# Altium footprint library 7.接插件封装.PcbLib: 201 footprints (part 9 of 13)
Each footprint in its own frame and in the unit in brackets; x right, y up, seen from the top. Pads: shape width x height; smd on the part's side, far side on the other; paste and mask are expansions set on the pad; w line width, h text height; cw(c..) or ccw(c..) is an arc to the next point about the centre after c.
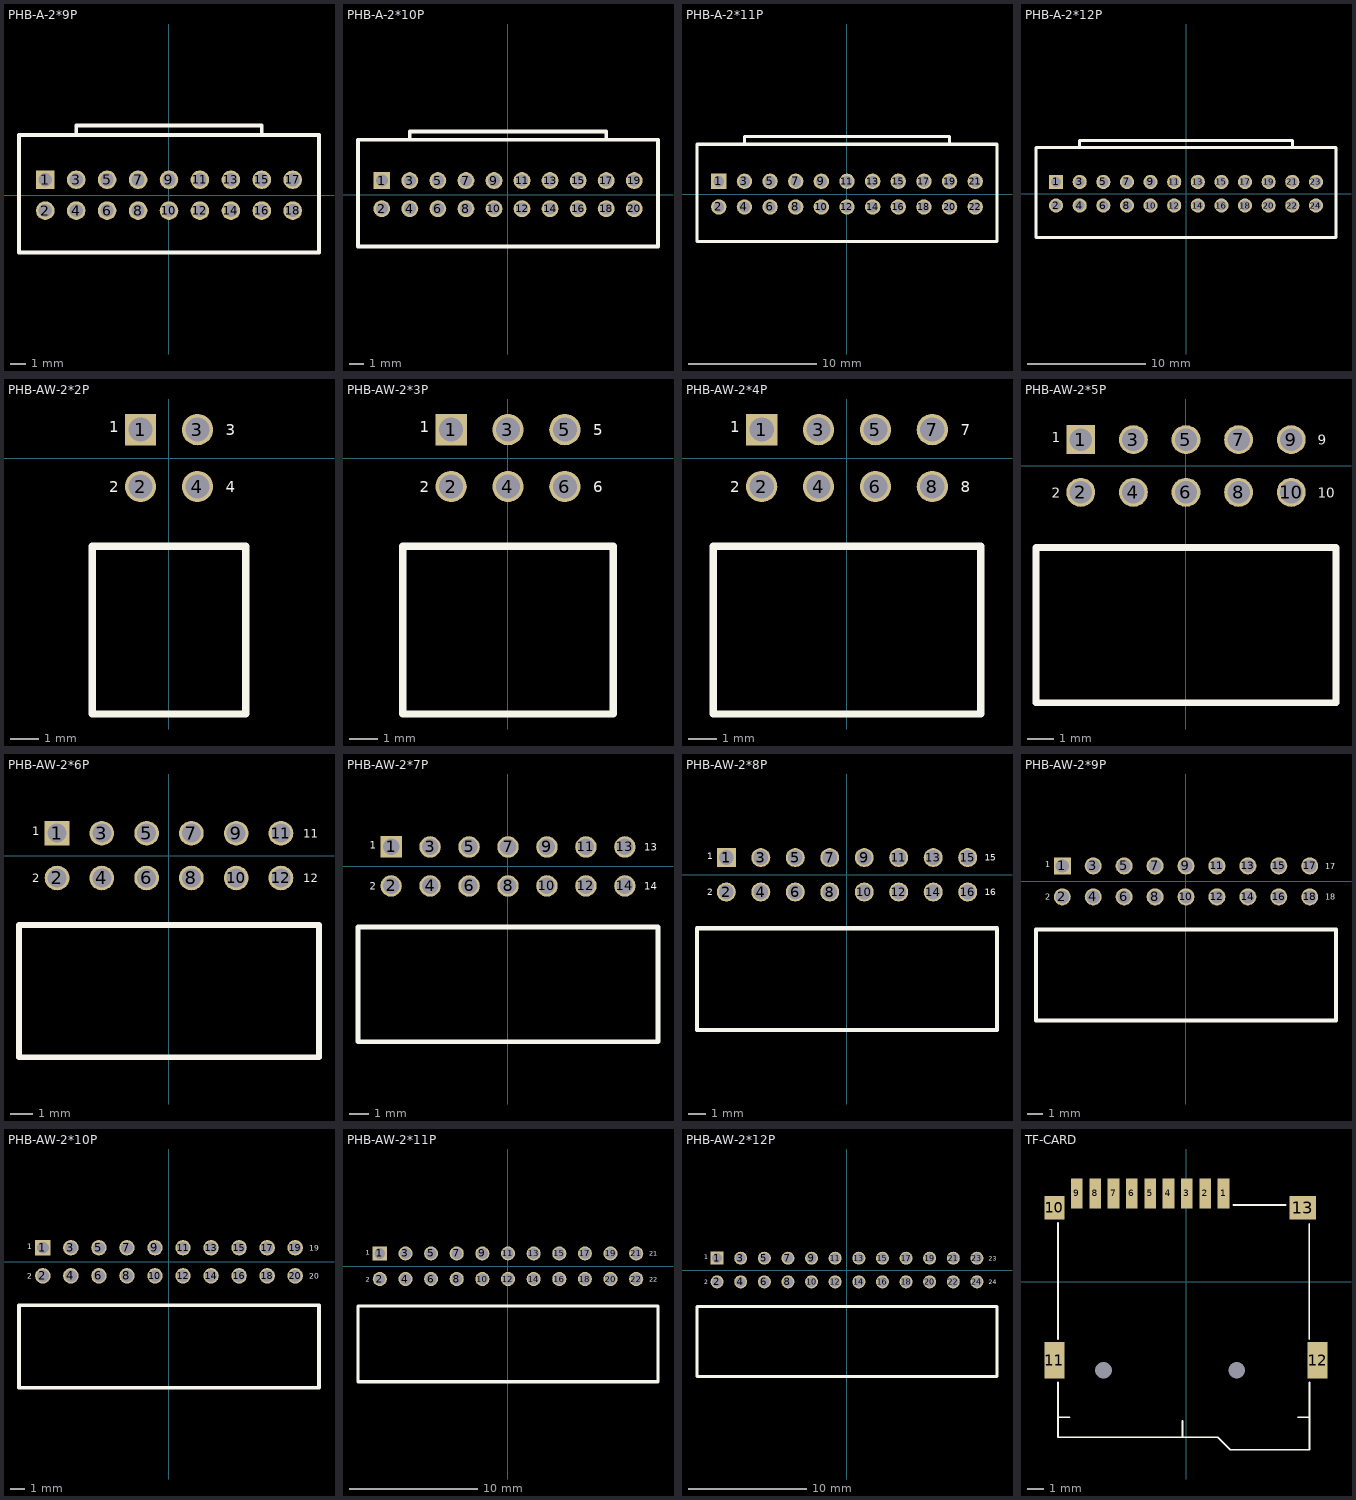
[diagram p8: the footprints below, top view; thin cyan lines are the x and y axes]

## PHB-A-2*9P [mm]
pads (18):
  rect 1.2x1.2 hole 0.85: 1(-8,1)
  round 1.2 hole 0.85: 2(-8,-1) 3(-6,1) 4(-6,-1) 5(-4,1) 6(-4,-1) 7(-2,1) 8(-2,-1) 9(0,1) 10(0,-1) 11(2,1) 12(2,-1) 13(4,1) 14(4,-1) 15(6,1) 16(6,-1) 17(8,1) 18(8,-1)
Top Overlay:
  lines w0.254: -6,3.9 -6,4.5 6,4.5 ; 6,3.9 6,4.5 ; -9.7,-3.7 -9.7,3.9 9.7,3.9 9.7,-3.7 -9.7,-3.7

## PHB-A-2*10P [mm]
pads (20):
  rect 1.2x1.2 hole 0.85: 1(-9,1)
  round 1.2 hole 0.85: 2(-9,-1) 3(-7,1) 4(-7,-1) 5(-5,1) 6(-5,-1) 7(-3,1) 8(-3,-1) 9(-1,1) 10(-1,-1) 11(1,1) 12(1,-1) 13(3,1) 14(3,-1) 15(5,1) 16(5,-1) 17(7,1) 18(7,-1) 19(9,1) 20(9,-1)
Top Overlay:
  lines w0.254: -7,3.9 -7,4.5 7,4.5 ; 7,3.9 7,4.5 ; -10.7,-3.7 10.7,-3.7 10.7,3.9 -10.7,3.9 -10.7,-3.7

## PHB-A-2*11P [mm]
pads (22):
  rect 1.2x1.2 hole 0.85: 1(-10,1)
  round 1.2 hole 0.85: 2(-10,-1) 3(-8,1) 4(-8,-1) 5(-6,1) 6(-6,-1) 7(-4,1) 8(-4,-1) 9(-2,1) 10(-2,-1) 11(0,1) 12(0,-1) 13(2,1) 14(2,-1) 15(4,1) 16(4,-1) 17(6,1) 18(6,-1) 19(8,1) 20(8,-1) 21(10,1) 22(10,-1)
Top Overlay:
  lines w0.254: -8,3.9 -8,4.5 8,4.5 8,3.9 ; 11.7,-3.7 -11.7,-3.7 -11.7,3.9 11.7,3.9 ; 11.7,-3.7 11.7,3.9

## PHB-A-2*12P [mm]
pads (24):
  rect 1.2x1.2 hole 0.85: 1(-11,1)
  round 1.2 hole 0.85: 2(-11,-1) 3(-9,1) 4(-9,-1) 5(-7,1) 6(-7,-1) 7(-5,1) 8(-5,-1) 9(-3,1) 10(-3,-1) 11(-1,1) 12(-1,-1) 13(1,1) 14(1,-1) 15(3,1) 16(3,-1) 17(5,1) 18(5,-1) 19(7,1) 20(7,-1) 21(9,1) 22(9,-1) 23(11,1) 24(11,-1)
Top Overlay:
  lines w0.254: -9,3.9 -9,4.5 9,4.5 9,3.9 ; -12.7,-3.7 12.7,-3.7 12.7,3.9 -12.7,3.9 -12.7,-3.7

## PHB-AW-2*2P [mm]
pads (4):
  rect 1.1x1.1 hole 0.85: 1(-1,1)
  round 1.1 hole 0.85: 2(-1,-1) 3(1,1) 4(1,-1)
Top Overlay:
  lines w0.254: -2.7,-9 2.7,-9 2.7,-3.1 -2.7,-3.1 -2.7,-9
  text "3" at 2,0.8 h0.38
  text "4" at 2,-1.2 h0.38
  text "2" at -2.1,-1.2 h0.38
  text "1" at -2.1,0.9 h0.38

## PHB-AW-2*3P [mm]
pads (6):
  rect 1.1x1.1 hole 0.85: 1(-2,1)
  round 1.1 hole 0.85: 2(-2,-1) 3(0,1) 4(0,-1) 5(2,1) 6(2,-1)
Top Overlay:
  lines w0.254: 3.7,-9 3.7,-3.1 ; 3.7,-9 -3.7,-9 -3.7,-3.1 3.7,-3.1
  text "6" at 3,-1.2 h0.38
  text "5" at 3,0.8 h0.38
  text "1" at -3.1,0.9 h0.38
  text "2" at -3.1,-1.2 h0.38

## PHB-AW-2*4P [mm]
pads (8):
  rect 1.1x1.1 hole 0.85: 1(-3,1)
  round 1.1 hole 0.85: 2(-3,-1) 3(-1,1) 4(-1,-1) 5(1,1) 6(1,-1) 7(3,1) 8(3,-1)
Top Overlay:
  lines w0.254: -4.7,-9 4.7,-9 4.7,-3.1 -4.7,-3.1 -4.7,-9
  text "7" at 4,0.8 h0.38
  text "8" at 4,-1.2 h0.38
  text "2" at -4.1,-1.2 h0.38
  text "1" at -4.1,0.9 h0.38

## PHB-AW-2*5P [mm]
pads (10):
  rect 1.1x1.1 hole 0.85: 1(-4,1)
  round 1.1 hole 0.85: 2(-4,-1) 3(-2,1) 4(-2,-1) 5(0,1) 6(0,-1) 7(2,1) 8(2,-1) 9(4,1) 10(4,-1)
Top Overlay:
  lines w0.254: -5.7,-9 -5.7,-3.1 5.7,-3.1 5.7,-9 -5.7,-9
  text "10" at 5,-1.2 h0.38
  text "9" at 5,0.8 h0.38
  text "1" at -5.1,0.9 h0.38
  text "2" at -5.1,-1.2 h0.38

## PHB-AW-2*6P [mm]
pads (12):
  rect 1.1x1.1 hole 0.85: 1(-5,1)
  round 1.1 hole 0.85: 2(-5,-1) 3(-3,1) 4(-3,-1) 5(-1,1) 6(-1,-1) 7(1,1) 8(1,-1) 9(3,1) 10(3,-1) 11(5,1) 12(5,-1)
Top Overlay:
  lines w0.254: 6.7,-9 -6.7,-9 -6.7,-3.1 6.7,-3.1 ; 6.7,-9 6.7,-3.1
  text "11" at 6,0.8 h0.38
  text "12" at 6,-1.2 h0.38
  text "2" at -6.1,-1.2 h0.38
  text "1" at -6.1,0.9 h0.38

## PHB-AW-2*7P [mm]
pads (14):
  rect 1.1x1.1 hole 0.85: 1(-6,1)
  round 1.1 hole 0.85: 2(-6,-1) 3(-4,1) 4(-4,-1) 5(-2,1) 6(-2,-1) 7(0,1) 8(0,-1) 9(2,1) 10(2,-1) 11(4,1) 12(4,-1) 13(6,1) 14(6,-1)
Top Overlay:
  lines w0.254: -7.7,-9 7.7,-9 7.7,-3.1 -7.7,-3.1 -7.7,-9
  text "2" at -7.1,-1.2 h0.38
  text "1" at -7.1,0.9 h0.38
  text "13" at 7,0.8 h0.38
  text "14" at 7,-1.2 h0.38

## PHB-AW-2*8P [mm]
pads (16):
  rect 1.1x1.1 hole 0.85: 1(-7,1)
  round 1.1 hole 0.85: 2(-7,-1) 3(-5,1) 4(-5,-1) 5(-3,1) 6(-3,-1) 7(-1,1) 8(-1,-1) 9(1,1) 10(1,-1) 11(3,1) 12(3,-1) 13(5,1) 14(5,-1) 15(7,1) 16(7,-1)
Top Overlay:
  lines w0.254: -8.7,-9 8.7,-9 8.7,-3.1 -8.7,-3.1 -8.7,-9
  text "1" at -8.1,0.9 h0.38
  text "2" at -8.1,-1.2 h0.38
  text "15" at 8,0.8 h0.38
  text "16" at 8,-1.2 h0.38

## PHB-AW-2*9P [mm]
pads (18):
  rect 1.1x1.1 hole 0.85: 1(-8,1)
  round 1.1 hole 0.85: 2(-8,-1) 3(-6,1) 4(-6,-1) 5(-4,1) 6(-4,-1) 7(-2,1) 8(-2,-1) 9(0,1) 10(0,-1) 11(2,1) 12(2,-1) 13(4,1) 14(4,-1) 15(6,1) 16(6,-1) 17(8,1) 18(8,-1)
Top Overlay:
  lines w0.254: -9.7,-9 -9.7,-3.1 9.7,-3.1 9.7,-9 -9.7,-9
  text "1" at -9.1,0.9 h0.38
  text "2" at -9.1,-1.2 h0.38
  text "18" at 9,-1.2 h0.38
  text "17" at 9,0.8 h0.38

## PHB-AW-2*10P [mm]
pads (20):
  rect 1.1x1.1 hole 0.85: 1(-9,1)
  round 1.1 hole 0.85: 2(-9,-1) 3(-7,1) 4(-7,-1) 5(-5,1) 6(-5,-1) 7(-3,1) 8(-3,-1) 9(-1,1) 10(-1,-1) 11(1,1) 12(1,-1) 13(3,1) 14(3,-1) 15(5,1) 16(5,-1) 17(7,1) 18(7,-1) 19(9,1) 20(9,-1)
Top Overlay:
  lines w0.254: 10.7,-9 10.7,-3.1 ; 10.7,-9 -10.7,-9 -10.7,-3.1 10.7,-3.1
  text "1" at -10.1,0.9 h0.38
  text "2" at -10.1,-1.2 h0.38
  text "19" at 10,0.8 h0.38
  text "20" at 10,-1.2 h0.38

## PHB-AW-2*11P [mm]
pads (22):
  rect 1.1x1.1 hole 0.85: 1(-10,1)
  round 1.1 hole 0.85: 2(-10,-1) 3(-8,1) 4(-8,-1) 5(-6,1) 6(-6,-1) 7(-4,1) 8(-4,-1) 9(-2,1) 10(-2,-1) 11(0,1) 12(0,-1) 13(2,1) 14(2,-1) 15(4,1) 16(4,-1) 17(6,1) 18(6,-1) 19(8,1) 20(8,-1) 21(10,1) 22(10,-1)
Top Overlay:
  lines w0.254: 11.7,-9 -11.7,-9 -11.7,-3.1 11.7,-3.1 ; 11.7,-9 11.7,-3.1
  text "21" at 11,0.8 h0.38
  text "22" at 11,-1.2 h0.38
  text "2" at -11.1,-1.2 h0.38
  text "1" at -11.1,0.9 h0.38

## PHB-AW-2*12P [mm]
pads (24):
  rect 1.1x1.1 hole 0.85: 1(-11,1)
  round 1.1 hole 0.85: 2(-11,-1) 3(-9,1) 4(-9,-1) 5(-7,1) 6(-7,-1) 7(-5,1) 8(-5,-1) 9(-3,1) 10(-3,-1) 11(-1,1) 12(-1,-1) 13(1,1) 14(1,-1) 15(3,1) 16(3,-1) 17(5,1) 18(5,-1) 19(7,1) 20(7,-1) 21(9,1) 22(9,-1) 23(11,1) 24(11,-1)
Top Overlay:
  lines w0.254: -12.7,-9 12.7,-9 12.7,-3.1 -12.7,-3.1 -12.7,-9
  text "1" at -12.1,0.9 h0.38
  text "2" at -12.1,-1.2 h0.38
  text "23" at 12,0.8 h0.38
  text "24" at 12,-1.2 h0.38

## TF-CARD [mm]
pads (15):
  round 0 hole 1 unplated: 0(-4.95,-5.312) 0(3.05,-5.312)
  rect 0.7x1.8 smd: 1(2.25,5.313) 2(1.15,5.313) 3(0.05,5.313) 4(-1.05,5.313) 5(-2.15,5.313) 6(-3.25,5.313) 7(-4.35,5.313) 8(-5.45,5.313) 9(-6.55,5.313)
  rect 1.2x1.4 smd: 10(-7.9,4.438)
  rect 1.2x2.2 smd: 11(-7.9,-4.712) 12(7.9,-4.712)
  rect 1.6x1.4 smd: 13(7,4.438)
Top Overlay:
  lines w0.1: -7.681,-8.128 -6.985,-8.128 ; -7.681,-6.04 -7.681,-9.312 -7.671,-9.322 1.902,-9.322 2.652,-10.072 3.712,-10.072 7.391,-10.072 7.406,-10.057 7.406,-6.03 ; -7.681,-3.454 -7.681,3.545 ; 2.845,4.612 5.994,4.612 ; 6.71,-8.128 7.406,-8.128 ; 7.391,-3.454 7.391,3.48
  lines w0.127: -0.213,-9.25 -0.213,-8.361